# Altium footprint library LKS034DO_FOC_Motor_05201.PcbLib: 28 footprints (part 1 of 2)
Each footprint in its own frame and in the unit in brackets; x right, y up, seen from the top. Pads: shape width x height; smd on the part's side, far side on the other; paste and mask are expansions set on the pad; w line width, h text height; cw(c..) or ccw(c..) is an arc to the next point about the centre after c.
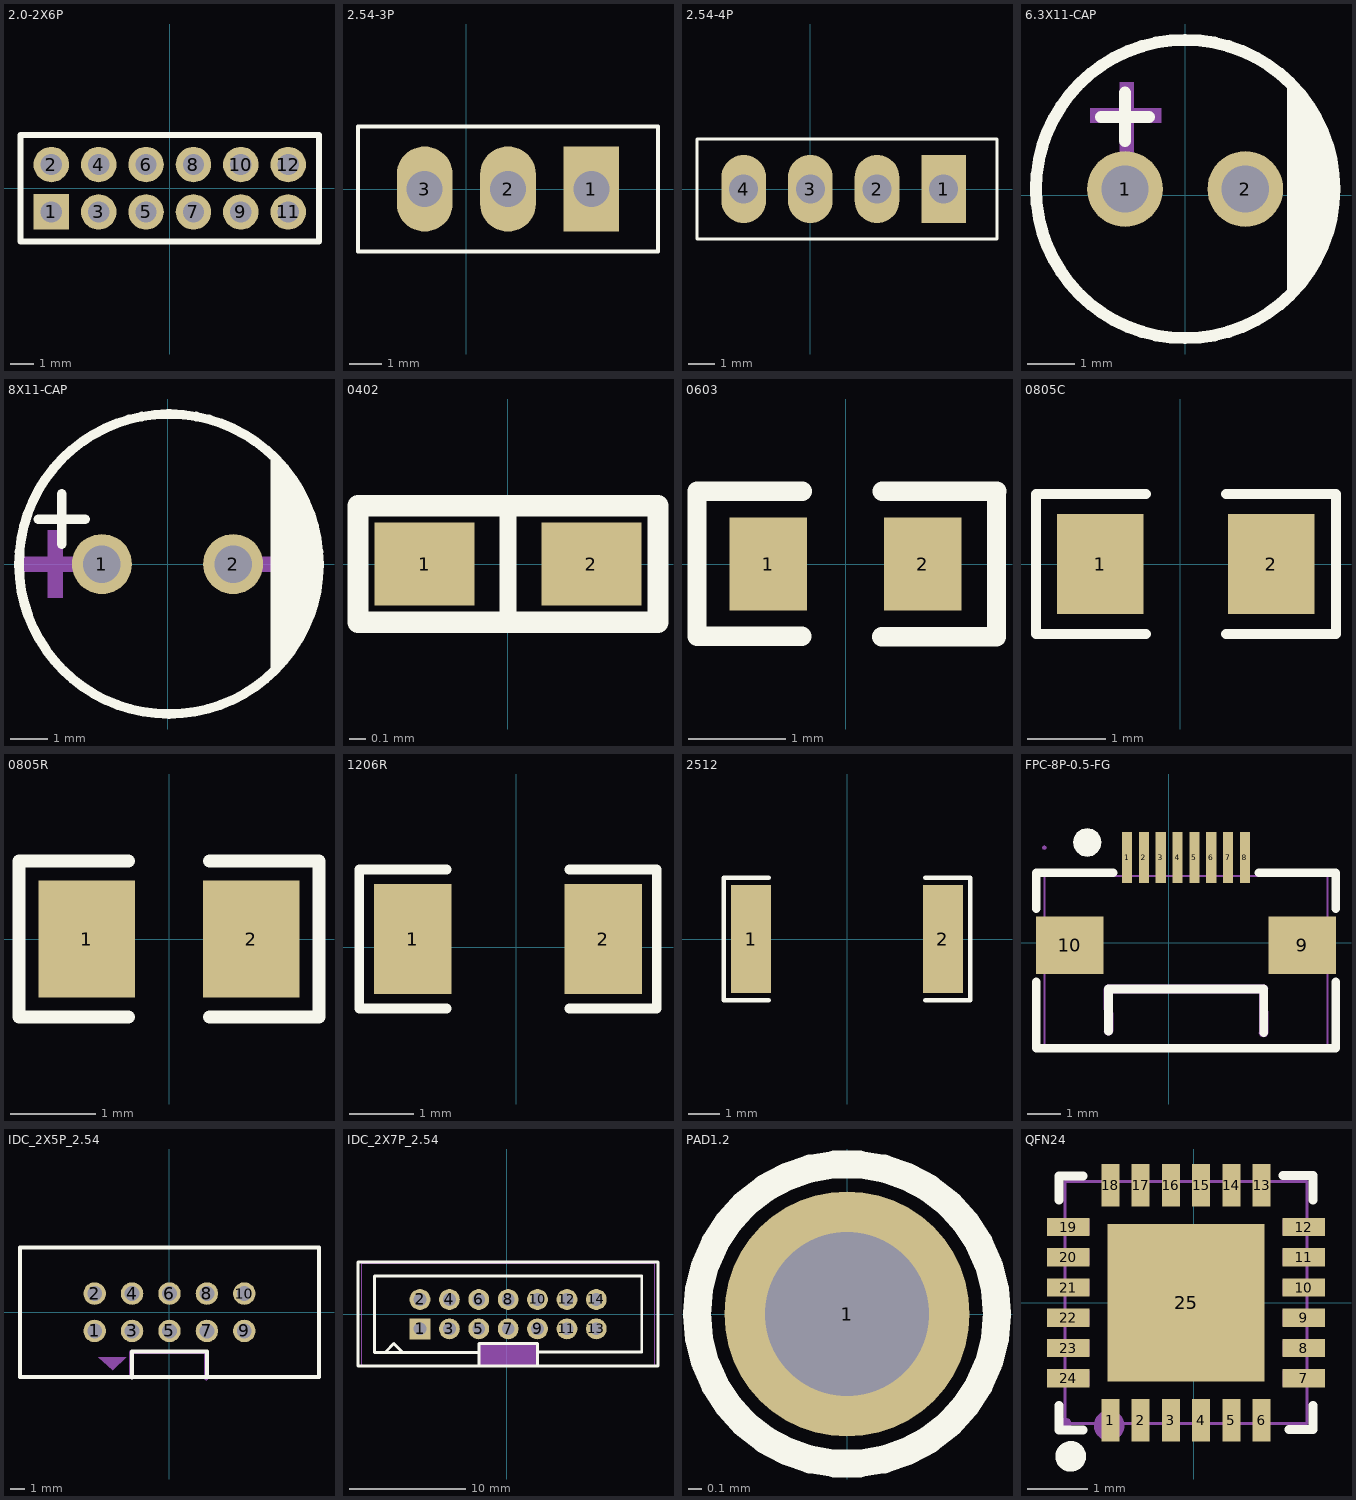
[diagram p0: the footprints below, top view; thin cyan lines are the x and y axes]

## 2.0-2X6P [mm]
pads (12):
  rect 1.5x1.5 hole 0.9: 1(-5,-1)
  round 1.5 hole 0.9: 2(-5,1) 3(-3,-1) 4(-3,1) 5(-1,-1) 6(-1,1) 7(1,-1) 8(1,1) 9(3,-1) 10(3,1) 11(5,-1) 12(5,1)
Top Overlay:
  lines w0.254: -6.3,-2.25 -6.3,2.25 6.3,2.25 6.3,-2.25 -6.3,-2.25
Mechanical 15:
  region: -6.235,-2.25 -6.254,-2.204 -6.3,-2.185 -6.346,-2.204 -6.365,-2.25 -6.346,-2.296 -6.3,-2.315 -6.254,-2.296
  region: 5.25,0.9 4.75,0.9 4.75,1.1 5.25,1.1
  region: 5.25,-1.1 4.75,-1.1 4.75,-0.9 5.25,-0.9
  region: 3.25,0.9 2.75,0.9 2.75,1.1 3.25,1.1
  region: 3.25,-1.1 2.75,-1.1 2.75,-0.9 3.25,-0.9
  region: 1.25,0.9 0.75,0.9 0.75,1.1 1.25,1.1
  region: 1.25,-1.1 0.75,-1.1 0.75,-0.9 1.25,-0.9
  region: -0.75,0.9 -1.25,0.9 -1.25,1.1 -0.75,1.1
  region: -0.75,-1.1 -1.25,-1.1 -1.25,-0.9 -0.75,-0.9
  region: -2.75,0.9 -3.25,0.9 -3.25,1.1 -2.75,1.1
  region: -2.75,-1.1 -3.25,-1.1 -3.25,-0.9 -2.75,-0.9
  region: -4.75,0.9 -5.25,0.9 -5.25,1.1 -4.75,1.1
  region: -4.75,-1.1 -5.25,-1.1 -5.25,-0.9 -4.75,-0.9
  lines w0.051: -6.3,-2.25 -6.3,2.25 6.3,2.25 6.3,-2.25 -6.3,-2.25

## 2.54-3P [mm]
pads (3):
  rect 1.7x2.6 hole 1.1: 1(3.81,0)
  oval 1.7x2.6 hole 1.1: 2(1.27,0) 3(-1.27,0)
Top Overlay:
  lines w0.127: -3.302,-1.905 5.842,-1.905 5.842,1.905 -3.302,1.905 -3.302,-1.905

## 2.54-4P [mm]
height 1.75
pads (4):
  rect 1.7x2.6 hole 1.1: 1(5.08,0)
  oval 1.7x2.6 hole 1.1: 2(2.54,0) 3(0,0) 4(-2.54,0)
Top Overlay:
  lines w0.127: -4.318,-1.905 7.112,-1.905 7.112,1.905 -3.81,1.905 -4.318,1.905 -4.318,-1.905

## 6.3X11-CAP [mm]
pads (2):
  round 1.6 hole 1: 1(-1.27,0.127) 2(1.27,0.127)
Top Overlay:
  circle w0.254: c0,0.127 r3.15
  region: 2.16,2.414 2.28,2.311 2.595,1.943 2.848,1.529 3.033,1.082 3.146,0.61 3.185,0.127 3.146,-0.356 3.033,-0.828 2.848,-1.275 2.595,-1.689 2.28,-2.057 2.16,-2.16 2.159,-2.159 2.159,2.413
  lines w0.254: -1.778,1.651 -0.762,1.651 ; -1.27,1.143 -1.27,2.159
Mechanical 15:
  region: -2,1.827 -0.5,1.827 -0.5,1.527 -2,1.527
  region: -1.381,0.879 -1.381,2.379 -1.081,2.379 -1.081,0.879

## 8X11-CAP [mm]
pads (2):
  round 1.6 hole 1: 1(-1.75,0) 2(1.75,0)
Top Overlay:
  region: 2.753,-3.003 3.059,-2.654 3.375,-2.18 3.628,-1.668 3.811,-1.128 3.922,-0.569 3.959,0 3.922,0.569 3.811,1.128 3.628,1.668 3.375,2.18 3.059,2.654 2.753,3.003 2.75,3
  lines w0.254: -3.445,1.2 -2.2,1.2 ; -2.822,0.527 -2.822,1.873 ; 0.003,4 ccw(c0.038,0.001) 0.074,4
Mechanical 15:
  region: -3.2,-0.9 -2.8,-0.9 -2.8,0.9 -3.2,0.9
  region: -3.9,0.2 -3.9,-0.2 -2.1,-0.2 -2.1,0.2
  region: 2.1,0.2 2.1,-0.2 3.9,-0.2 3.9,0.2

## 0402 [mm]
pads (2):
  rect 0.6x0.5 smd: 1(-0.5,0) 2(0.5,0)
Top Overlay:
  lines w0.1: 0,-0.35 0,0.35
  lines w0.127: -0.9,-0.35 0.9,-0.35 0.9,0.35 -0.9,0.35 -0.9,-0.35

## 0603 [mm]
pads (2):
  rect 0.8x0.955 smd: 1(-0.795,0) 2(0.795,0)
Top Overlay:
  lines w0.2: -0.452,-0.743 -1.53,-0.743 -1.53,0.75 -0.445,0.75 ; 0.372,-0.748 0.374,-0.75 ; 0.378,0.75 1.56,0.75 ; 1.555,-0.735 1.555,0.735 1.555,-0.748 1.553,-0.75 ; 1.553,-0.75 0.375,-0.75 1.553,-0.75

## 0805C [mm]
height 1.75
pads (2):
  rect 1.1x1.27 smd: 1(-1.016,0) 2(1.159,0)
Top Overlay:
  lines w0.127: -0.433,-0.889 -1.83,-0.889 -1.83,0.889 -0.433,0.889 ; 0.583,-0.889 1.98,-0.889 1.98,0.889 0.583,0.889

## 0805R [mm]
pads (2):
  rect 1.133x1.377 smd: 1(-0.966,0) 2(0.966,0)
Top Overlay:
  lines w0.152: -0.476,-0.917 -1.761,-0.917 -1.761,0.917 -0.476,0.917 ; 0.476,-0.917 1.761,-0.917 1.761,0.917 0.476,0.917
Top Paste:
  region: 0.45,-0.64 0.45,-0.22 0.895,-0.22 0.895,0.23 0.455,0.23 0.45,0.64 0.5,0.69 1.65,0.69 1.7,0.64 1.7,-0.64 1.65,-0.69 0.5,-0.69
  region: -1.7,-0.64 -1.7,0.64 -1.65,0.69 -0.5,0.69 -0.45,0.64 -0.445,0.23 -0.895,0.23 -0.895,-0.22 -0.455,-0.22 -0.45,-0.64 -0.5,-0.69 -1.65,-0.69

## 1206R [mil]
pads (2):
  rect 47.54x66.97 smd: 1(-63.22,5) 2(53.22,5)
Top Overlay:
  lines w6: -42.45,-37.48 -95.99,-37.48 -95.99,47.48 -42.45,47.48 ; 32.45,-37.48 85.99,-37.48 85.99,47.48 32.45,47.48
Top Paste:
  region: -39.45,-24.55 -39.45,-10.32 -43.39,-6.38 -51.68,-6.38 -55.61,-2.45 -55.61,12.45 -51.68,16.39 -43.39,16.39 -39.45,20.32 -39.45,34.55 -43.39,38.48 -83.05,38.48 -86.99,34.55 -86.99,-24.55 -83.05,-28.48 -43.39,-28.48
  region: 29.45,-24.55 29.45,-10.32 33.39,-6.38 41.68,-6.38 45.61,-2.45 45.61,12.45 41.68,16.39 33.39,16.39 29.45,20.32 29.45,34.55 33.39,38.48 73.05,38.48 76.99,34.55 76.99,-24.55 73.05,-28.48 33.39,-28.48

## 2512 [mm]
pads (2):
  rect 1.283x3.456 smd: 1(-3.066,0) 2(3.066,0)
Top Overlay:
  lines w0.152: -2.501,-1.957 -3.936,-1.957 -3.936,1.957 -2.501,1.957 ; 2.501,-1.957 3.936,-1.957 3.936,1.957 2.501,1.957
Top Paste:
  region: 2.425,-1.628 2.425,-0.688 2.525,-0.588 2.761,-0.588 2.861,-0.488 2.861,0.488 2.761,0.588 2.525,0.588 2.425,0.688 2.425,1.628 2.525,1.728 3.608,1.728 3.708,1.628 3.708,-1.628 3.608,-1.728 2.525,-1.728
  region: -2.425,-1.628 -2.425,-0.688 -2.525,-0.588 -2.761,-0.588 -2.861,-0.488 -2.861,0.488 -2.761,0.588 -2.525,0.588 -2.425,0.688 -2.425,1.628 -2.525,1.728 -3.608,1.728 -3.708,1.628 -3.708,-1.628 -3.608,-1.728 -2.525,-1.728

## FPC-8P-0.5-FG [mm]
pads (10):
  rect 0.3x1.5 smd: 1(-1.237,2.525) 2(-0.737,2.525) 3(-0.237,2.525) 4(0.263,2.525) 5(0.763,2.525) 6(1.263,2.525) 7(1.763,2.525) 8(2.263,2.525)
  rect 2x1.7 smd: 9(3.963,-0.075) 10(-2.937,-0.075)
Top Overlay:
  region: -2.838,2.972 -2.806,3.132 -2.715,3.268 -2.579,3.359 -2.419,3.391 -2.259,3.359 -2.123,3.268 -2.032,3.132 -2,2.972 -2.032,2.812 -2.123,2.676 -2.259,2.585 -2.419,2.553 -2.579,2.585 -2.715,2.676 -2.806,2.812
  lines w0.254: -3.933,-1.156 -3.933,-3.132 4.959,-3.132 4.959,-1.156 ; -3.933,1.006 -3.933,2.075 -1.647,2.075 ; -1.787,-2.625 -1.787,-1.375 2.813,-1.375 2.813,-2.675 ; 2.669,2.075 4.959,2.075 4.959,1.006
Mechanical 6:
  region: -1.914,-2.625 -1.925,-1.375 -1.884,-1.278 -1.787,-1.238 -1.787,-1.248 2.813,-1.238 2.91,-1.278 2.95,-1.375 2.94,-1.375 2.95,-2.675 2.91,-2.772 2.813,-2.812 2.716,-2.772 2.675,-2.675 2.686,-2.675 2.686,-1.502 -1.66,-1.502 -1.65,-2.625 -1.69,-2.722 -1.787,-2.763 -1.884,-2.722 -1.925,-2.625
Mechanical 15:
  region: -3.623,2.82 -3.641,2.865 -3.687,2.884 -3.733,2.865 -3.751,2.82 -3.733,2.775 -3.687,2.756 -3.641,2.775
  region: 3.263,0.475 4.663,0.475 4.663,-0.525 3.263,-0.525
  region: -3.637,0.475 -2.237,0.475 -2.237,-0.525 -3.637,-0.525
  region: -1.337,2.82 -1.137,2.82 -1.137,1.97 -1.337,1.97
  region: -0.837,2.82 -0.637,2.82 -0.637,1.97 -0.837,1.97
  region: -0.337,2.82 -0.137,2.82 -0.137,1.97 -0.337,1.97
  region: 0.163,2.82 0.363,2.82 0.363,1.97 0.163,1.97
  region: 0.663,2.82 0.863,2.82 0.863,1.97 0.663,1.97
  region: 1.163,2.82 1.363,2.82 1.363,1.97 1.163,1.97
  region: 1.663,2.82 1.863,2.82 1.863,1.97 1.663,1.97
  region: 2.163,2.82 2.363,2.82 2.363,1.97 2.163,1.97
  lines w0.051: -3.687,-3.175 4.713,-3.175 4.713,1.975 -3.687,1.975 -3.687,-3.175

## IDC_2X5P_2.54 [mil]
pads (10):
  round 60 hole 39.37: 1(-200,-50) 2(-200,50) 3(-100,-50) 4(-100,50) 5(0,-50) 6(0,50) 7(100,-50) 8(100,50) 9(200,-50) 10(200,50)
Top Overlay:
  lines w10: -98,-172 -100,-175 -100,-105 100,-105 100,-174 100,-172 ; -399.61,-173.23 -399.61,173.23 399.6,173.23 399.6,-173.23 -399.61,-173.23
Mechanical 6:
  region: -107.36,-173.23 -107.77,-106.3 -106.19,-102.47 -102.36,-100.89 -102.36,-101.3 98.42,-100.89 102.25,-102.47 103.84,-106.3 103.42,-106.3 103.84,-177.16 102.25,-180.99 98.42,-182.58 94.6,-180.99 93.01,-177.16 93.42,-177.16 93.42,-111.3 -97.36,-111.3 -96.95,-173.23 -98.54,-177.05 -102.36,-178.64 -106.19,-177.05 -107.77,-173.23
  region: -190.94,-120.08 -116.14,-120.08 -151.57,-155.51
Mechanical 15:
  region: -212.6,-37.4 -187.4,-37.4 -187.4,-62.6 -212.6,-62.6
  region: -212.6,62.6 -187.4,62.6 -187.4,37.4 -212.6,37.4
  region: -112.6,-37.4 -87.4,-37.4 -87.4,-62.6 -112.6,-62.6
  region: -112.6,62.6 -87.4,62.6 -87.4,37.4 -112.6,37.4
  region: -12.6,-37.4 12.6,-37.4 12.6,-62.6 -12.6,-62.6
  region: -12.6,62.6 12.6,62.6 12.6,37.4 -12.6,37.4
  region: 87.4,-37.4 112.6,-37.4 112.6,-62.6 87.4,-62.6
  region: 87.4,62.6 112.6,62.6 112.6,37.4 87.4,37.4
  region: 187.4,-37.4 212.6,-37.4 212.6,-62.6 187.4,-62.6
  region: 187.4,62.6 212.6,62.6 212.6,37.4 187.4,37.4
  region: -397.04,-173.23 -397.79,-171.42 -399.6,-170.67 -401.41,-171.42 -402.16,-173.23 -401.41,-175.04 -399.6,-175.79 -397.79,-175.04
  lines w2: -399.61,-173.23 399.61,-173.23 399.61,173.23 -399.61,173.23 -399.61,-173.23

## IDC_2X7P_2.54 [mm]
pads (14):
  rect 1.8x1.8 hole 1.1: 1(-7.493,-1.27)
  round 1.8 hole 1.1: 2(-7.493,1.27) 3(-4.953,-1.27) 4(-4.953,1.27) 5(-2.413,-1.27) 6(-2.413,1.27) 7(0.127,-1.27) 8(0.127,1.27) 9(2.667,-1.27) 10(2.667,1.27) 11(5.207,-1.27) 12(5.207,1.27) 13(7.747,-1.27) 14(7.747,1.27)
Top Overlay:
  lines w0.254: -12.852,-4.479 -12.852,4.521 ; -12.824,4.521 13.078,4.521 13.078,-4.479 ; -12.799,-4.496 13.078,-4.496 ; -11.43,-3.302 -2.413,-3.302 ; -11.43,-3.277 -11.43,3.293 ; -11.421,3.302 11.675,3.302 ; -10.389,-3.175 -9.754,-2.54 -9.068,-3.226 -9.068,-3.251 ; -2.391,-4.496 -2.391,-2.54 2.667,-2.54 2.667,-4.496 ; 2.667,-3.277 11.675,-3.277 11.675,3.293
Mechanical 6:
  region: -2.373,-4.4 -2.373,-2.5 2.727,-2.5 2.727,-4.4
Mechanical 15:
  region: 7.427,1.59 8.067,1.59 8.067,0.95 7.427,0.95
  region: 7.427,-0.95 8.067,-0.95 8.067,-1.59 7.427,-1.59
  region: 4.887,1.59 5.527,1.59 5.527,0.95 4.887,0.95
  region: 4.887,-0.95 5.527,-0.95 5.527,-1.59 4.887,-1.59
  region: 2.347,1.59 2.987,1.59 2.987,0.95 2.347,0.95
  region: 2.347,-0.95 2.987,-0.95 2.987,-1.59 2.347,-1.59
  region: -0.193,1.59 0.447,1.59 0.447,0.95 -0.193,0.95
  region: -0.193,-0.95 0.447,-0.95 0.447,-1.59 -0.193,-1.59
  region: -2.733,1.59 -2.093,1.59 -2.093,0.95 -2.733,0.95
  region: -2.733,-0.95 -2.093,-0.95 -2.093,-1.59 -2.733,-1.59
  region: -5.273,1.59 -4.633,1.59 -4.633,0.95 -5.273,0.95
  region: -5.273,-0.95 -4.633,-0.95 -4.633,-1.59 -5.273,-1.59
  region: -7.813,1.59 -7.173,1.59 -7.173,0.95 -7.813,0.95
  region: -7.813,-0.95 -7.173,-0.95 -7.173,-1.59 -7.813,-1.59
  region: -12.458,-4.4 -12.477,-4.354 -12.523,-4.335 -12.569,-4.354 -12.588,-4.4 -12.569,-4.446 -12.523,-4.465 -12.477,-4.446
  lines w0.051: -12.523,-4.4 12.777,-4.4 12.777,4.4 -12.523,4.4 -12.523,-4.4

## PAD1.2 [mm]
height 1.75
pads (1):
  round 1.8 hole 1.2: 1(0,0)
Top Overlay:
  circle w0.203: c0,0 r1.1

## QFN24 [mm]
pads (25):
  rect 0.3x0.7 smd: 1(-1.377,-1.942) 2(-0.877,-1.942) 3(-0.377,-1.942) 4(0.123,-1.942) 5(0.623,-1.942) 6(1.123,-1.942) 13(1.123,1.942) 14(0.623,1.942) 15(0.123,1.942) 16(-0.377,1.942) 17(-0.877,1.942) 18(-1.377,1.942)
  rect 0.7x0.3 smd: 7(1.821,-1.25) 8(1.821,-0.75) 9(1.821,-0.25) 10(1.821,0.25) 11(1.821,0.75) 12(1.821,1.25) 19(-2.075,1.25) 20(-2.075,0.75) 21(-2.075,0.25) 22(-2.075,-0.25) 23(-2.075,-0.75) 24(-2.075,-1.25)
  rect 2.6x2.6 smd: 25(-0.126,-0.001)
Top Overlay:
  circle w0.254: c-2.032,-2.54 r0.127
  lines w0.15: -2.227,-1.7 -2.227,-2.104 -1.827,-2.104 ; -2.227,1.696 -2.227,2.096 -1.827,2.096 ; 1.473,2.1 1.973,2.1 1.973,1.7 ; 1.573,-2.1 1.973,-2.1 1.973,-1.7
Top Paste:
  region: -1.166,-1.041 -1.166,1.039 0.914,1.039 0.914,-1.041
  region: -2.425,-1.4 -2.425,-1.1 -1.725,-1.1 -1.725,-1.4
  region: -2.425,-0.9 -2.425,-0.6 -1.725,-0.6 -1.725,-0.9
  region: -2.425,-0.4 -2.425,-0.1 -1.725,-0.1 -1.725,-0.4
  region: -2.425,0.1 -2.425,0.4 -1.725,0.4 -1.725,0.1
  region: -2.425,0.6 -2.425,0.9 -1.725,0.9 -1.725,0.6
  region: -2.425,1.1 -2.425,1.4 -1.725,1.4 -1.725,1.1
  region: -1.527,2.292 -1.227,2.292 -1.227,1.592 -1.527,1.592
  region: -1.027,2.292 -0.727,2.292 -0.727,1.592 -1.027,1.592
  region: -0.527,2.292 -0.227,2.292 -0.227,1.592 -0.527,1.592
  region: -0.027,2.292 0.273,2.292 0.273,1.592 -0.027,1.592
  region: 0.473,2.292 0.773,2.292 0.773,1.592 0.473,1.592
  region: 0.973,2.292 1.273,2.292 1.273,1.592 0.973,1.592
  region: 2.171,1.4 2.171,1.1 1.471,1.1 1.471,1.4
  region: 2.171,0.9 2.171,0.6 1.471,0.6 1.471,0.9
  region: 2.171,0.4 2.171,0.1 1.471,0.1 1.471,0.4
  region: 2.171,-0.1 2.171,-0.4 1.471,-0.4 1.471,-0.1
  region: 2.171,-0.6 2.171,-0.9 1.471,-0.9 1.471,-0.6
  region: 2.171,-1.1 2.171,-1.4 1.471,-1.4 1.471,-1.1
  region: 1.273,-2.292 0.973,-2.292 0.973,-1.592 1.273,-1.592
  region: 0.773,-2.292 0.473,-2.292 0.473,-1.592 0.773,-1.592
  region: 0.273,-2.292 -0.027,-2.292 -0.027,-1.592 0.273,-1.592
  region: -0.227,-2.292 -0.527,-2.292 -0.527,-1.592 -0.227,-1.592
  region: -0.727,-2.292 -1.027,-2.292 -1.027,-1.592 -0.727,-1.592
  region: -1.227,-2.292 -1.527,-2.292 -1.527,-1.592 -1.227,-1.592
Mechanical 6:
  circle w0.254: c-1.397,-2.032 r0.127
Mechanical 15:
  region: -2.019,-2 -2.05,-1.924 -2.127,-1.892 -2.204,-1.924 -2.235,-2 -2.204,-2.077 -2.127,-2.108 -2.05,-2.077
  region: -1.376,1.249 1.124,1.249 1.124,-1.251 -1.376,-1.251
  region: -1.502,-2 -1.502,-1.6 -1.252,-1.6 -1.252,-2
  region: -1.002,-2 -1.002,-1.6 -0.752,-1.6 -0.752,-2
  region: -0.502,-2 -0.502,-1.6 -0.252,-1.6 -0.252,-2
  region: -0.002,-2 -0.002,-1.6 0.248,-1.6 0.248,-2
  region: 0.498,-2 0.498,-1.6 0.748,-1.6 0.748,-2
  region: 0.998,-2 0.998,-1.6 1.248,-1.6 1.248,-2
  region: 1.249,1.998 1.249,1.598 0.999,1.598 0.999,1.998
  region: 0.75,1.998 0.75,1.598 0.5,1.598 0.5,1.998
  region: 0.249,1.998 0.249,1.598 -0.001,1.598 -0.001,1.998
  region: -0.25,1.998 -0.25,1.598 -0.5,1.598 -0.5,1.998
  region: -0.751,1.998 -0.751,1.598 -1.001,1.598 -1.001,1.998
  region: -1.25,1.998 -1.25,1.598 -1.5,1.598 -1.5,1.998
  region: 1.873,-1.378 1.473,-1.378 1.473,-1.128 1.873,-1.128
  region: 1.873,-0.878 1.473,-0.878 1.473,-0.628 1.873,-0.628
  region: 1.873,-0.378 1.473,-0.378 1.473,-0.128 1.873,-0.128
  region: 1.873,0.122 1.473,0.122 1.473,0.372 1.873,0.372
  region: 1.873,0.622 1.473,0.622 1.473,0.872 1.873,0.872
  region: 1.873,1.122 1.473,1.122 1.473,1.372 1.873,1.372
  region: -2.124,1.375 -1.724,1.375 -1.724,1.125 -2.124,1.125
  region: -2.124,0.875 -1.724,0.875 -1.724,0.625 -2.124,0.625
  region: -2.124,0.375 -1.724,0.375 -1.724,0.125 -2.124,0.125
  region: -2.124,-0.125 -1.724,-0.125 -1.724,-0.375 -2.124,-0.375
  region: -2.124,-0.625 -1.724,-0.625 -1.724,-0.875 -2.124,-0.875
  region: -2.124,-1.125 -1.724,-1.125 -1.724,-1.375 -2.124,-1.375
  lines w0.051: -2.127,-2 1.873,-2 1.873,2 -2.127,2 -2.127,-2